# Altium schematic symbol library mechanical.SchLib: 2 symbols
Pins are listed as number, name and electrical type; pins without a type are passive.

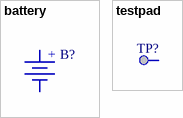
[diagram p0: symbols battery to testpad]

## battery
designator B?
=Description
pins: 1, 2
text: +

## testpad
designator TP?
=Description
pins: 1